# EAGLE library part FT231X (library we-chip)
FTDI FT231X USB to UART Bridge (5V tolerant inputs)
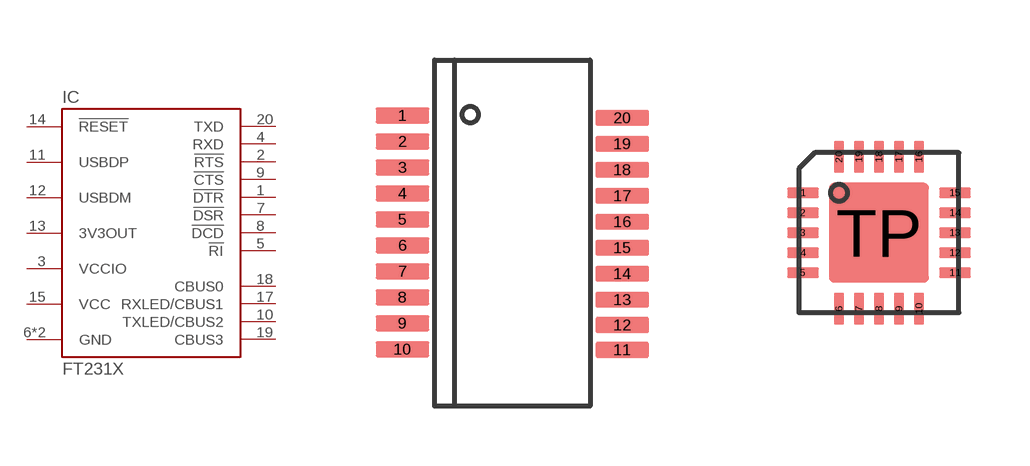
[diagram p10: symbol with the pads of SSOP20; footprints SSOP20, QFN20-PAD]

Designator prefix IC

## FT231XS  [SSOP20]
1  !DTR
2  !RTS
3  VCCIO  pwr
4  RXD
5  !RI
6  GND  pwr
7  !DSR
8  !DCD
9  !CTS
10  TXLED/CBUS2
11  USBDP
12  USBDM
13  3V3OUT  pwr
14  !RESET
15  VCC  pwr
16  GND  pwr
17  RXLED/CBUS1
18  CBUS0
19  CBUS3
20  TXD

## FT231XQ (DIGIKEY: 768-1128-6-ND)  [QFN20-PAD]
1  RXD
2  !RI
3  GND  pwr
4  !DSR
5  !DCD
6  !CTS
7  TXLED/CBUS2
8  USBDP
9  USBDM
10  3V3OUT  pwr
11  !RESET
12  VCC  pwr
13  GND  pwr
14  RXLED/CBUS1
15  CBUS0
16  CBUS3
17  TXD
18  !DTR
19  !RTS
20  VCCIO  pwr
TP  GND  pwr

## Footprint SSOP20 (pad centres in mm)
smd 1.35 x 0.4: 1 -2.748,2.94; 2 -2.748,2.29; 3 -2.748,1.64; 4 -2.748,0.99; 5 -2.748,0.34; 6 -2.748,-0.31; 7 -2.748,-0.96; 8 -2.748,-1.61; 9 -2.748,-2.26; 10 -2.748,-2.91; 11 2.748,-2.925; 12 2.748,-2.305; 13 2.748,-1.67; 14 2.748,-1.02; 15 2.748,-0.37; 16 2.748,0.28; 17 2.748,0.93; 18 2.748,1.58; 19 2.748,2.23; 20 2.748,2.88

## Footprint QFN20-PAD (pad centres in mm)
smd 0.8 x 0.26: 1 -1.9,1; 2 -1.9,0.5; 3 -1.9,0; 4 -1.9,-0.5; 5 -1.9,-1; 11 1.9,-1; 12 1.9,-0.5; 13 1.9,0; 14 1.9,0.5; 15 1.9,1
smd 0.26 x 0.8: 6 -1,-1.9; 7 -0.5,-1.9; 8 0,-1.9; 9 0.5,-1.9; 10 1,-1.9; 16 1,1.9; 17 0.5,1.9; 18 0,1.9; 19 -0.5,1.9; 20 -1,1.9
smd 2.5 x 2.5: TP 0,0